# EAGLE library part AM26LV32E (library TheMaker_Logic_v5)
QUADRUPLE DIFFERENTIAL LINE RECEIVERS
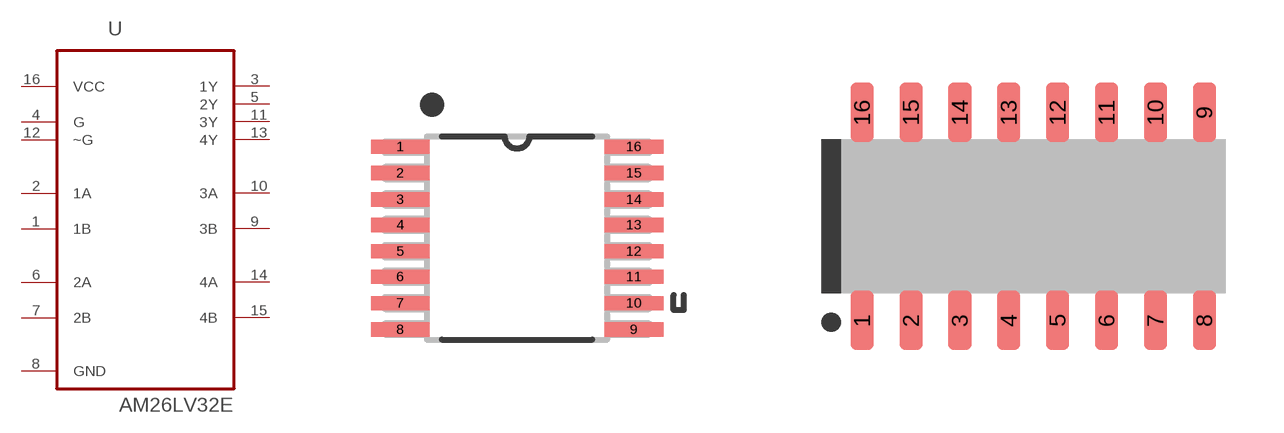
[diagram p5: symbol with the pads of SOP65P640X120-16N; footprints SOP65P640X120-16N, SO16]

Designator prefix U

## AM26LV32EIPWR  [SOP65P640X120-16N]
1  1B  in
2  1A  in
3  1Y  out
4  G  in
5  2Y  out
6  2A  in
7  2B  in
8  GND  pas
9  3B  in
10  3A  in
11  3Y  out
12  ~G  in
13  4Y  out
14  4A  in
15  4B  in
16  VCC  pwr

## AM26LV32EIDR  [SO16]
Pads as for SOP65P640X120-16N

## Footprint SOP65P640X120-16N (pad centres in mm)
smd 1.473 x 0.356: 1 -2.921,2.286; 2 -2.921,1.626; 3 -2.921,0.965; 4 -2.921,0.33; 5 -2.921,-0.33; 6 -2.921,-0.965; 7 -2.921,-1.626; 8 -2.921,-2.286; 9 2.921,-2.286; 10 2.921,-1.626; 11 2.921,-0.965; 12 2.921,-0.33; 13 2.921,0.33; 14 2.921,0.965; 15 2.921,1.626; 16 2.921,2.286

## Footprint SO16 (pad centres in mm)
SO16
smd 0.6 x 1.55: 1 -4.445,-2.7; 2 -3.175,-2.7; 3 -1.905,-2.7; 4 -0.635,-2.7; 5 0.635,-2.7; 6 1.905,-2.7; 7 3.175,-2.7; 8 4.445,-2.7; 9 4.445,2.7; 10 3.175,2.7; 11 1.905,2.7; 12 0.635,2.7; 13 -0.635,2.7; 14 -1.905,2.7; 15 -3.175,2.7; 16 -4.445,2.7